# Altium footprint library SNR4-2.54-15.5X12.0X5.5MM.PcbLib: 1 footprints
Each footprint in its own frame and in the unit in brackets; x right, y up, seen from the top. Pads: shape width x height; smd on the part's side, far side on the other; paste and mask are expansions set on the pad; w line width, h text height; cw(c..) or ccw(c..) is an arc to the next point about the centre after c.
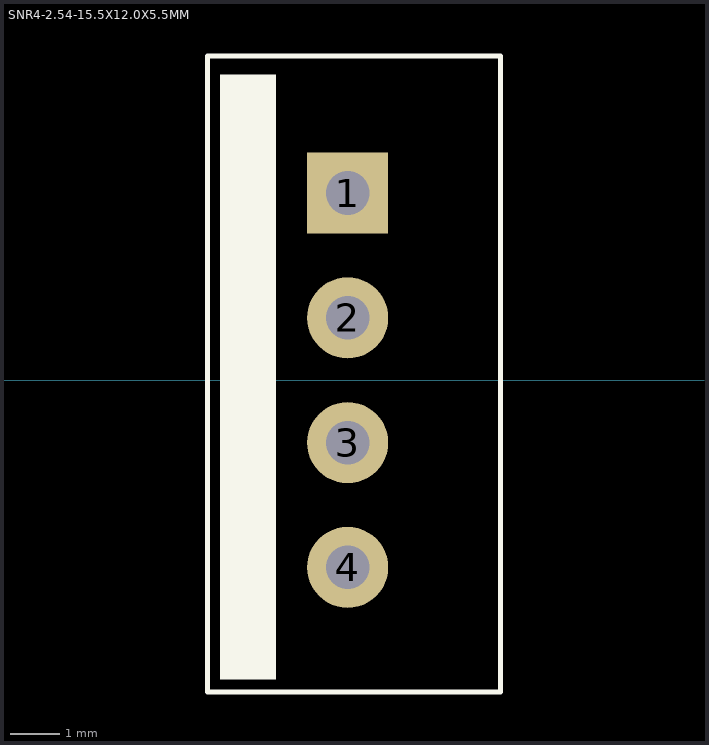
[diagram p0: the footprint, top view; thin cyan lines are the x and y axes]

## SNR4-2.54-15.5X12.0X5.5MM [mil]
pads (4):
  rect 65x65 hole 35: 1(-462.6,150)
  round 65 hole 35: 2(-462.6,50) 3(-462.6,-50) 4(-462.6,-150)
Top Overlay:
  rectangle: -565,-240 -520,245
  lines w3.94: -575,-250 -340,-250 -340,260 -575,260 -575,-250
  text "." at -465,230 h60
3D body "DHT11_V.step": height 634.96, standoff -288.27, extent -570,-245 -345.59,255